# Altium footprint library PCB - RESISTOR - ARRAY - RESNET 1506-16 CONVEX.PcbLib: 1 footprints
Each footprint in its own frame and in the unit in brackets; x right, y up, seen from the top. Pads: shape width x height; smd on the part's side, far side on the other; paste and mask are expansions set on the pad; w line width, h text height; cw(c..) or ccw(c..) is an arc to the next point about the centre after c.
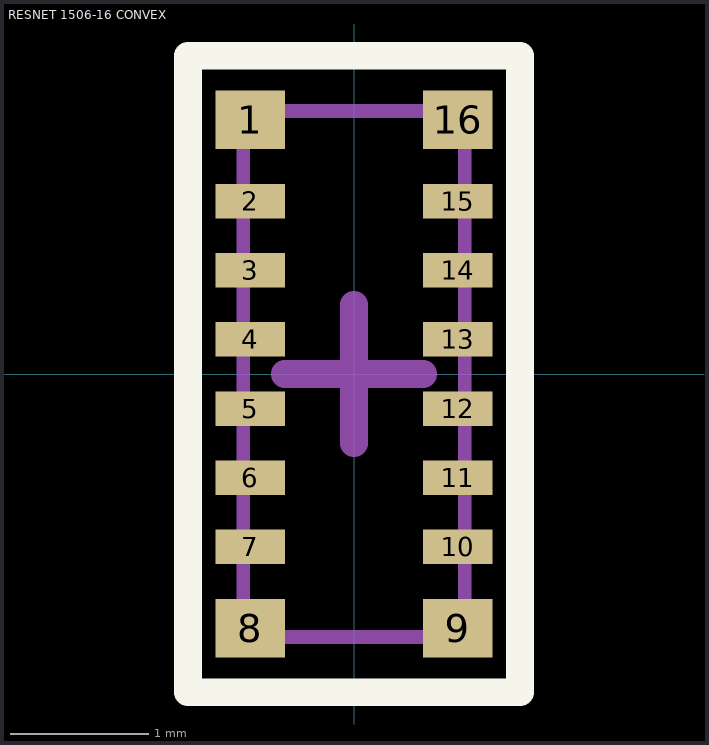
[diagram p0: the footprint, top view; thin cyan lines are the x and y axes]

## RESNET 1506-16 CONVEX [mm] "Array Chip Resistor, 16 leads, 8 resistors, Body 3.8x1.6mm Height 0.55mm"
height 0.55
pads (16):
  rect 0.5x0.425 smd mask+0.032: 1(-0.75,1.837) 8(-0.75,-1.837) 9(0.75,-1.837) 16(0.75,1.837)
  rect 0.5x0.25 smd mask+0.032: 2(-0.75,1.25) 4(-0.75,0.25) 5(-0.75,-0.25) 6(-0.75,-0.75) 7(-0.75,-1.25) 10(0.75,-1.25) 11(0.75,-0.75) 12(0.75,-0.25) 13(0.75,0.25) 15(0.75,1.25)
  rect 0.5x0.25 smd paste+0 mask+0.032: 3(-0.75,0.75) 14(0.75,0.75)
Top Overlay:
  lines w0.2: -1.2,-2.3 -1.2,2.3 1.2,2.3 1.2,-2.3 -1.2,-2.3
Mechanical 13:
  lines w0.1: -0.8,-1.9 -0.8,1.9 0.8,1.9 0.8,-1.9 -0.8,-1.9
Mechanical 15 (Mech15):
  lines w0.05: -1.2,-2.3 1.2,-2.3 1.2,2.3 -1.2,2.3 -1.2,-2.3
  lines w0.2: -0.5,0 0.5,0 ; 0,-0.5 0,0.5
3D body "RESNET - 1506 Convex.step": height 0.51, standoff 0, extent -0.825,-1.95 0.825,1.95